# Altium footprint library SM08B-SURS-TF.PcbLib: 1 footprints
Each footprint in its own frame and in the unit in brackets; x right, y up, seen from the top. Pads: shape width x height; smd on the part's side, far side on the other; paste and mask are expansions set on the pad; w line width, h text height; cw(c..) or ccw(c..) is an arc to the next point about the centre after c.
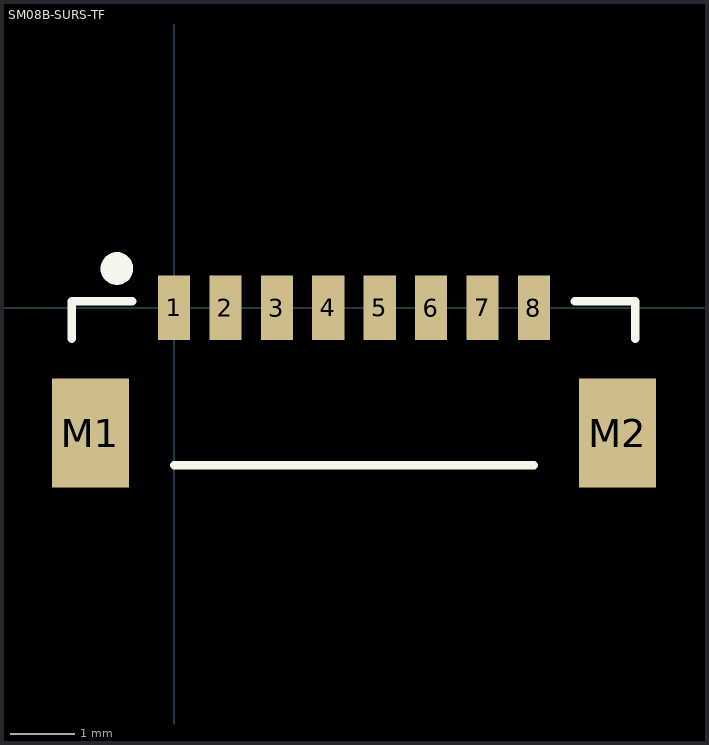
[diagram p0: the footprint, top view; thin cyan lines are the x and y axes]

## SM08B-SURS-TF [mm]
pads (10):
  rect 0.5x1 smd: 1(0,0) 2(0.8,0) 3(1.6,0) 4(2.4,0) 5(3.2,0) 6(4,0) 7(4.8,0) 8(5.6,0)
  rect 1.2x1.7 smd: M1(-1.3,-1.95) M2(6.9,-1.95)
Top Overlay:
  lines w0.13: -1.588,-0.483 -1.588,0.1 -0.649,0.1 ; 0,-2.45 5.6,-2.45 ; 6.235,0.1 7.175,0.1 7.175,-0.483
  lines w0.254: -0.772,0.66 ccw(c-0.889,0.61) -0.77,0.653
3D body "SM08B-SURS-TF.STEP": height 1.7, standoff -0.05, extent -1.507,-2.413 7.093,0.287